# Altium footprint library Kondensator_DIP.PcbLib: 222 footprints (part 10 of 14)
Each footprint in its own frame and in the unit in brackets; x right, y up, seen from the top. Pads: shape width x height; smd on the part's side, far side on the other; paste and mask are expansions set on the pad; w line width, h text height; cw(c..) or ccw(c..) is an arc to the next point about the centre after c.
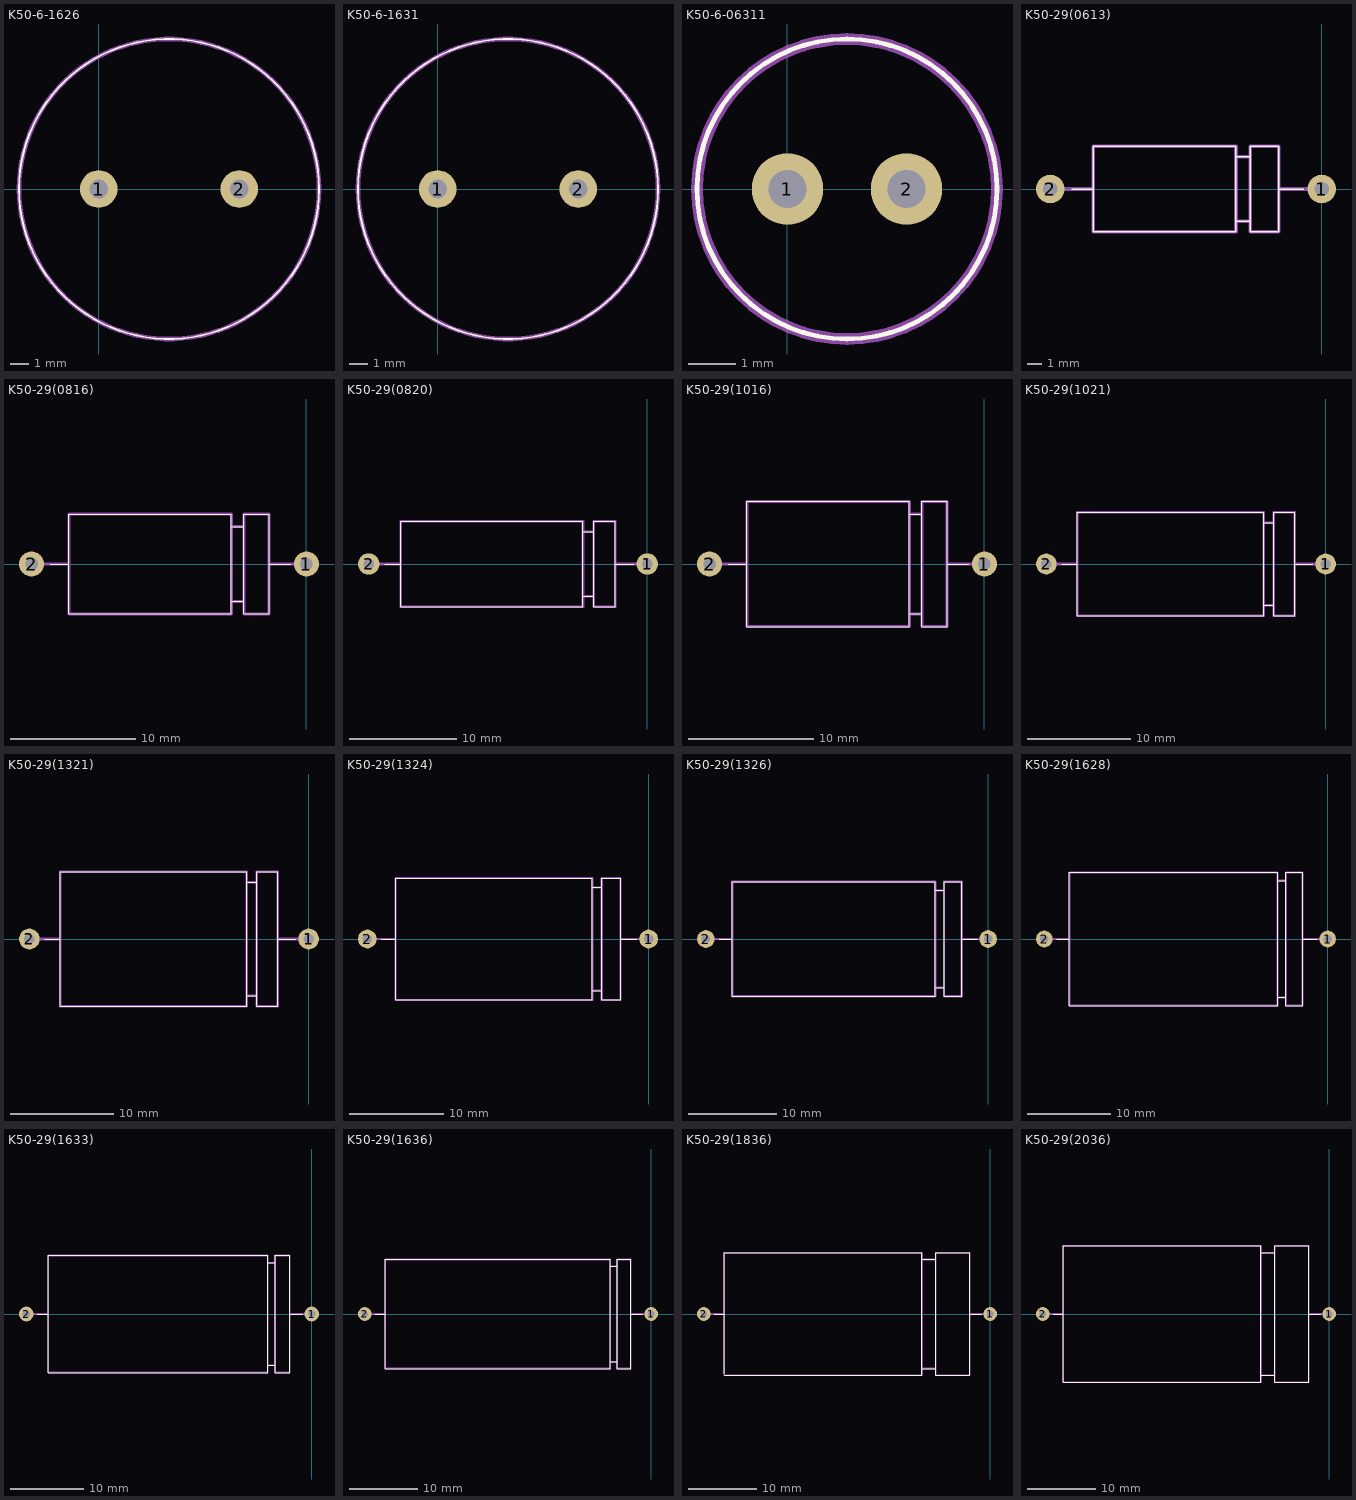
[diagram p9: the footprints below, top view; thin cyan lines are the x and y axes]

## K50-6-1626 [mm]
pads (2):
  round 2 hole 1: 1(0,0) 2(7.5,0)
Top Overlay:
  lines w0.1: -4.25,0 cw(c3.75,0) 11.75,0 cw(c3.75,0) -4.25,0
Mechanical 1:
  lines w0.25: -4.25,0 cw(c3.75,0) 11.75,0 cw(c3.75,0) -4.25,0

## K50-6-1631 [mm]
pads (2):
  round 2 hole 1: 1(0,0) 2(7.5,0)
Top Overlay:
  lines w0.1: -4.25,0 cw(c3.75,0) 11.75,0 cw(c3.75,0) -4.25,0
Mechanical 1:
  lines w0.25: -4.25,0 cw(c3.75,0) 11.75,0 cw(c3.75,0) -4.25,0

## K50-6-06311 [mm]
pads (2):
  round 1.5 hole 0.8: 1(0,0) 2(2.5,0)
Top Overlay:
  lines w0.1: -1.9,0 cw(c1.25,0) 4.4,0 cw(c1.25,0) -1.9,0
Mechanical 1:
  lines w0.25: -1.9,0 cw(c1.25,0) 4.4,0 cw(c1.25,0) -1.9,0

## K50-29(0613) [mm]
pads (2):
  round 2 hole 1: 1(0,0) 2(-19,0)
Top Overlay:
  lines w0.1: -17.5,0 -16,0 ; -6,-2.25 -5,-2.25 ; -6,2.25 -5,2.25 ; -3,0 -1.25,0 ; -5,-2.25 -5,2.25 ; -5,-2.25 -5,-3 -3,-3 -3,3 -5,3 -5,2.25 ; -16,-3 -6,-3 -6,3 -16,3 -16,-3
Mechanical 1:
  lines w0.25: -19,0 -16,0 ; -6,-2.25 -5,-2.25 ; -6,2.25 -5,2.25 ; 0,0 -3,0 ; -16,0 -16,3 -6,3 -6,-3 -16,-3 -16,0 ; -3,0 -3,3 -5,3 -5,-2.75 -5,-3 -3,-3 -3,0
  text "+" at -4.75,-0.75 h0.94

## K50-29(0816) [mm]
pads (2):
  round 2 hole 1: 1(0,0) 2(-22,0)
Top Overlay:
  lines w0.1: -20.5,0 -19,0 ; -6,-3 -5,-3 ; -6,3 -5,3 ; -3,0 -1.25,0 ; -19,-4 -6,-4 -6,4 -19,4 -19,-4 ; -5,-4 -5,4 -3,4 -3,-4 -5,-4
Mechanical 1:
  lines w0.25: -22,0 -19,0 ; -6,-3 -5,-3 ; -6,3 -5,3 ; 0,0 -3,0 ; -19,0 -19,4 -6,4 -6,-4 -19,-4 -19,0 ; -3,0 -3,4 -5,4 -5,-4 -3,-4 -3,0
  text "+" at -4.75,-0.75 h0.94

## K50-29(0820) [mm]
pads (2):
  round 2 hole 1: 1(0,0) 2(-26,0)
Top Overlay:
  lines w0.1: -24.5,0 -23,0 ; -6,-3 -5,-3 ; -6,3 -5,3 ; -3,0 -1.25,0 ; -23,-4 -6,-4 -6,4 -23,4 -23,-4 ; -5,-4 -5,4 -3,4 -3,-4 -5,-4
Mechanical 1:
  lines w0.25: -26,0 -23,0 ; -6,-3 -5,-3 ; -6,3 -5,3 ; 0,0 -3,0 ; -23,0 -23,4 -6,4 -6,-4 -23,-4 -23,0 ; -3,0 -3,4 -5,4 -5,-4 -3,-4 -3,0
  text "+" at -4.75,-0.75 h0.94

## K50-29(1016) [mm]
pads (2):
  round 2 hole 1: 1(0,0) 2(-22,0)
Top Overlay:
  lines w0.1: -20.5,0 -19,0 ; -6,-4 -5,-4 ; -6,4 -5,4 ; -3,0 -1.25,0 ; -19,-5 -6,-5 -6,5 -19,5 -19,-5 ; -5,-5 -5,5 -3,5 -3,-5 -5,-5
Mechanical 1:
  lines w0.25: -22,0 -19,0 ; -6,-4 -5,-4 ; -6,4 -5,4 ; 0,0 -3,0 ; -19,0 -19,5 -6,5 -6,-5 -19,-5 -19,0 ; -3,0 -3,5 -5,5 -5,-5 -3,-5 -3,0
  text "+" at -4.75,-0.75 h0.94

## K50-29(1021) [mm]
pads (2):
  round 2 hole 1: 1(0,0) 2(-27,0)
Top Overlay:
  lines w0.1: -25.5,0 -24,0 ; -6,-4 -5,-4 ; -6,4 -5,4 ; -3,0 -1.25,0 ; -24,-5 -6,-5 -6,5 -24,5 -24,-5 ; -5,-5 -5,5 -3,5 -3,-5 -5,-5
Mechanical 1:
  lines w0.25: -27,0 -24,0 ; -6,-4 -5,-4 ; -6,4 -5,4 ; 0,0 -3,0 ; -24,0 -24,5 -6,5 -6,-5 -24,-5 -24,0 ; -3,0 -3,5 -5,5 -5,-5 -3,-5 -3,0
  text "+" at -4.75,-0.75 h0.94

## K50-29(1321) [mm]
pads (2):
  round 2 hole 1: 1(0,0) 2(-27,0)
Top Overlay:
  lines w0.1: -25.5,0 -24,0 ; -6,-5.5 -5,-5.5 ; -6,5.5 -5,5.5 ; -3,0 -1.25,0 ; -24,-6.5 -6,-6.5 -6,6.5 -24,6.5 -24,-6.5 ; -5,-6.5 -5,6.5 -3,6.5 -3,-6.5 -5,-6.5
Mechanical 1:
  lines w0.25: -27,0 -24,0 ; -6,-5.5 -5,-5.5 ; -6,5.5 -5,5.5 ; 0,0 -3,0 ; -24,0 -24,6.5 -6,6.5 -6,-6.5 -24,-6.5 -24,0 ; -3,0 -3,6.5 -5,6.5 -5,-6.5 -3,-6.5 -3,0
  text "+" at -4.75,-0.75 h0.94

## K50-29(1324) [mm]
pads (2):
  round 2 hole 1: 1(0,0) 2(-30,0)
Top Overlay:
  lines w0.1: -28.5,0 -27,0 ; -6,-5.5 -5,-5.5 ; -6,5.5 -5,5.5 ; -3,0 -1.25,0 ; -27,-6.5 -6,-6.5 -6,6.5 -27,6.5 -27,-6.5 ; -5,-6.5 -5,6.5 -3,6.5 -3,-6.5 -5,-6.5
Mechanical 1:
  lines w0.25: -30,0 -27,0 ; -6,-5.5 -5,-5.5 ; -6,5.5 -5,5.5 ; 0,0 -3,0 ; -27,0 -27,6.5 -6,6.5 -6,-6.5 -27,-6.5 -27,0 ; -3,0 -3,6.5 -5,6.5 -5,-6.5 -3,-6.5 -3,0
  text "+" at -4.75,-0.75 h0.94

## K50-29(1326) [mm]
pads (2):
  round 2 hole 1: 1(0,0) 2(-32,0)
Top Overlay:
  lines w0.1: -30.5,0 -29,0 ; -6,-5.5 -5,-5.5 ; -6,5.5 -5,5.5 ; -3,0 -1.25,0 ; -29,-6.5 -6,-6.5 -6,6.5 -29,6.5 -29,-6.5 ; -5,-6.5 -5,6.5 -3,6.5 -3,-6.5 -5,-6.5
Mechanical 1:
  lines w0.25: -32,0 -29,0 ; -6,-5.5 -5,-5.5 ; -6,5.5 -5,5.5 ; 0,0 -3,0 ; -29,0 -29,6.5 -6,6.5 -6,-6.5 -29,-6.5 -29,0 ; -3,0 -3,6.5 -5,6.5 -5,-6.5 -3,-6.5 -3,0
  text "+" at -4.75,-0.75 h0.94

## K50-29(1628) [mm]
pads (2):
  round 2 hole 1: 1(0,0) 2(-34,0)
Top Overlay:
  lines w0.1: -32.5,0 -31,0 ; -6,-7 -5,-7 ; -6,7 -5,7 ; -3,0 -1.25,0 ; -31,-8 -6,-8 -6,8 -31,8 -31,-8 ; -5,-8 -5,8 -3,8 -3,-8 -5,-8
Mechanical 1:
  lines w0.25: -34,0 -31,0 ; -6,-7 -5,-7 ; -6,7 -5,7 ; 0,0 -3,0 ; -31,0 -31,8 -6,8 -6,-8 -31,-8 -31,0 ; -3,0 -3,8 -5,8 -5,-8 -3,-8 -3,0
  text "+" at -4.75,-0.75 h0.94

## K50-29(1633) [mm]
pads (2):
  round 2 hole 1: 1(0,0) 2(-39,0)
Top Overlay:
  lines w0.1: -37.5,0 -36,0 ; -6,-7 -5,-7 ; -6,7 -5,7 ; -3,0 -1.25,0 ; -36,-8 -6,-8 -6,8 -36,8 -36,-8 ; -5,-8 -5,8 -3,8 -3,-8 -5,-8
Mechanical 1:
  lines w0.25: -39,0 -36,0 ; -6,-7 -5,-7 ; -6,7 -5,7 ; 0,0 -3,0 ; -36,0 -36,8 -6,8 -6,-8 -36,-8 -36,0 ; -3,0 -3,8 -5,8 -5,-8 -3,-8 -3,0
  text "+" at -4.75,-0.75 h0.94

## K50-29(1636) [mm]
pads (2):
  round 2 hole 1: 1(0,0) 2(-42,0)
Top Overlay:
  lines w0.1: -40.5,0 -39,0 ; -6,-7 -5,-7 ; -6,7 -5,7 ; -3,0 -1.25,0 ; -39,-8 -6,-8 -6,8 -39,8 -39,-8 ; -5,-8 -5,8 -3,8 -3,-8 -5,-8
Mechanical 1:
  lines w0.25: -42,0 -39,0 ; -6,-7 -5,-7 ; -6,7 -5,7 ; 0,0 -3,0 ; -39,0 -39,8 -6,8 -6,-8 -39,-8 -39,0 ; -3,0 -3,8 -5,8 -5,-8 -3,-8 -3,0
  text "+" at -4.75,-0.75 h0.94

## K50-29(1836) [mm]
pads (2):
  round 2 hole 1: 1(0,0) 2(-42,0)
Top Overlay:
  lines w0.1: -40.5,0 -39,0 ; -39,-9 -10,-9 -10,9 -39,9 -39,-8.75 ; -10,-8 -8,-8 ; -10,8 -8,8 ; -3,0 -1.25,0 ; -8,-9 -3,-9 -3,9 -8,9 -8,-9
Mechanical 1:
  lines w0.25: -42,0 -39,0 ; -10,-8 -8,-8 ; -10,8 -8,8 ; 0,0 -3,0 ; -39,0 -39,9 -10,9 -10,-9 -39,-9 -39,0 ; -3,0 -3,9 -8,9 -8,-9 -3,-9 -3,0
  text "+" at -5.5,-0.75 h0.94

## K50-29(2036) [mm]
pads (2):
  round 2 hole 1: 1(0,0) 2(-42,0)
Top Overlay:
  lines w0.1: -40.5,0 -39,0 ; -10,-9 -8,-9 ; -10,9 -8,9 ; -3,0 -1.25,0 ; -39,-10 -10,-10 -10,10 -39,10 -39,-10 ; -8,-10 -3,-10 -3,10 -8,10 -8,-10
Mechanical 1:
  lines w0.25: -42,0 -39,0 ; -10,-9 -8,-9 ; -10,9 -8,9 ; 0,0 -3,0 ; -39,0 -39,10 -10,10 -10,-10 -39,-10 -39,0 ; -3,0 -3,10 -8,10 -8,-10 -3,-10 -3,0
  text "+" at -5.5,-0.75 h0.94